# Altium integrated library Capacitor - Aluminium TH.IntLib: 4591 symbols (part 47 of 68)
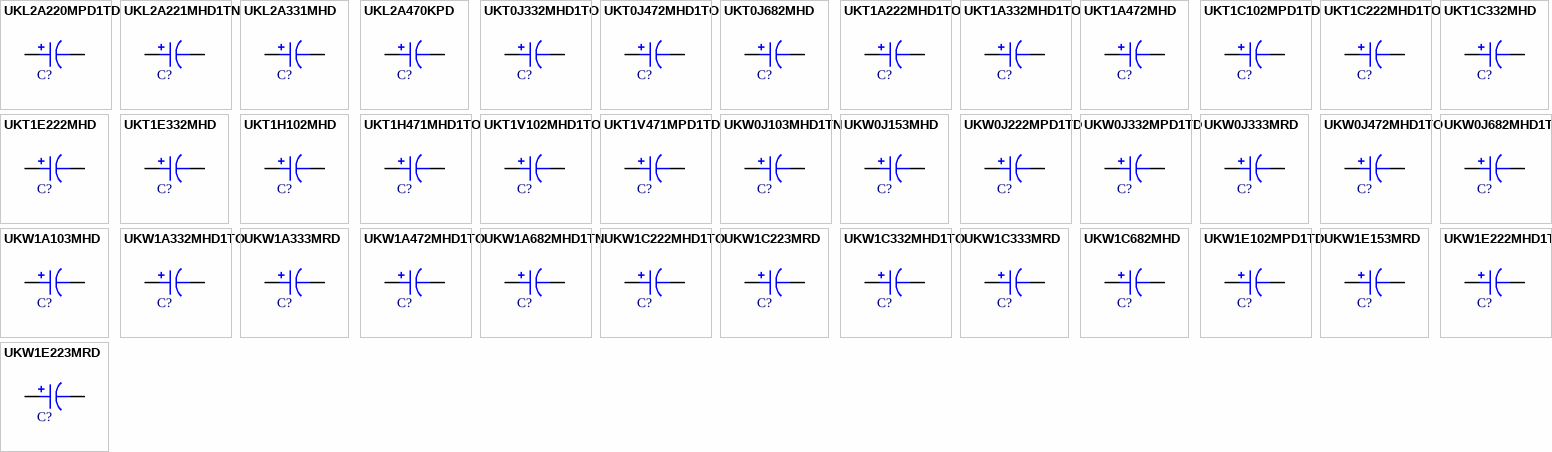
[diagram p160: symbols UKL2A220MPD1TD to UKW1E223MRD]

## UKL2A470KPD
designator C?, comment 47uF  (value not drawn)
CAP ALUM 47UF 10% 100V RADIAL; Part Number: UKL2A470KPD; Manufacturer: Nichicon; TemperatureRange: -40C ~ 85C; Type: Polar; Ripple Current: 220mA @ 120Hz; Value: 47uF; PartId: 25618; Supplier 1: Digi-Key; Supplier Part Number 1: 493-14500-ND; ComponentLink1Description: Datasheet; ComponentLink1URL: http://nichicon-us.com/english/products/pdfs/e-ukl.pdf; ComponentLink2Description: Digi-Key Listing; ComponentLink2URL: https://www.digikey.com/product-detail/en/nichicon/UKL2A470KPD/493-14500-ND/2598578; Tolerance: 10%; Voltage: 100V; Price: 0.7; Device Package: Radial, Can, 10mm
footprint CAP AL TH D10 L5 H22
pins: 1, 2

## UKT0J332MHD1TO
designator C?, comment 3300uF  (value not drawn)
CAP ALUM 3300UF 20% 6.3V RADIAL; Part Number: UKT0J332MHD1TO; Manufacturer: Nichicon; TemperatureRange: -55C ~ 105C; Ripple Current: 910mA; Value: 3300uF; PartId: 23196; Supplier 1: Digi-Key; Supplier Part Number 1: 493-10614-3-ND; ComponentLink1Description: Datasheet; ComponentLink1URL: http://nichicon-us.com/english/products/pdfs/e-ukt.pdf; ComponentLink2Description: Digi-Key Listing; ComponentLink2URL: https://www.digikey.com/product-detail/en/nichicon/UKT0J332MHD1TO/493-10614-3-ND/4317236; Tolerance: 20%; Voltage: 6.3V; Price: 0.4455; Device Package: Radial, Can, 12.5mm
footprint CAP AL TH D12.5 L5 H22
pins: 1, 2

## UKT0J472MHD1TO
designator C?, comment 4700uF  (value not drawn)
CAP ALUM 4700UF 20% 6.3V RADIAL; Part Number: UKT0J472MHD1TO; Manufacturer: Nichicon; TemperatureRange: -55C ~ 105C; Ripple Current: 1.12mA; Value: 4700uF; PartId: 24128; Supplier 1: Digi-Key; Supplier Part Number 1: 493-10617-1-ND; ComponentLink1Description: Datasheet; ComponentLink1URL: http://nichicon-us.com/english/products/pdfs/e-ukt.pdf; ComponentLink2Description: Digi-Key Listing; ComponentLink2URL: https://www.digikey.com/product-detail/en/nichicon/UKT0J472MHD1TO/493-10617-1-ND/4317637; Tolerance: 20%; Voltage: 6.3V; Price: 1.44; Device Package: Radial, Can, 12.5mm
footprint CAP AL TH D12.5 L5 H27
pins: 1, 2

## UKT0J682MHD
designator C?, comment 6800uF  (value not drawn)
CAP ALUM 6800UF 20% 6.3V RADIAL; Part Number: UKT0J682MHD; Manufacturer: Nichicon; TemperatureRange: -55C ~ 105C; Ripple Current: 1.36A; Value: 6800uF; PartId: 24400; Supplier 1: Digi-Key; Supplier Part Number 1: 493-10618-ND; ComponentLink1Description: Datasheet; ComponentLink1URL: http://nichicon-us.com/english/products/pdfs/e-ukt.pdf; ComponentLink2Description: Digi-Key Listing; ComponentLink2URL: https://www.digikey.com/product-detail/en/nichicon/UKT0J682MHD/493-10618-ND/1964316; Tolerance: 20%; Voltage: 6.3V; Price: 1.85; Device Package: Radial, Can, 12.5mm
footprint CAP AL TH D12.5 L5 H35.5
pins: 1, 2

## UKT1A222MHD1TO
designator C?, comment 2200uF  (value not drawn)
CAP ALUM 2200UF 20% 10V RADIAL; Part Number: UKT1A222MHD1TO; Manufacturer: Nichicon; TemperatureRange: -55C ~ 105C; Ripple Current: 810mA; Value: 2200uF; PartId: 23460; Supplier 1: Digi-Key; Supplier Part Number 1: 493-10623-1-ND; ComponentLink1Description: Datasheet; ComponentLink1URL: http://nichicon-us.com/english/products/pdfs/e-ukt.pdf; ComponentLink2Description: Digi-Key Listing; ComponentLink2URL: https://www.digikey.com/product-detail/en/nichicon/UKT1A222MHD1TO/493-10623-1-ND/4317642; Tolerance: 20%; Voltage: 10V; Price: 1.05; Device Package: Radial, Can, 12.5mm
footprint CAP AL TH D12.5 L5 H22
pins: 1, 2

## UKT1A332MHD1TO
designator C?, comment 3300uF  (value not drawn)
CAP ALUM 3300UF 20% 10V RADIAL; Part Number: UKT1A332MHD1TO; Manufacturer: Nichicon; TemperatureRange: -55C ~ 105C; Ripple Current: 1.05A; Value: 3300uF; PartId: 24129; Supplier 1: Digi-Key; Supplier Part Number 1: 493-10626-1-ND; ComponentLink1Description: Datasheet; ComponentLink1URL: http://nichicon-us.com/english/products/pdfs/e-ukt.pdf; ComponentLink2Description: Digi-Key Listing; ComponentLink2URL: https://www.digikey.com/product-detail/en/nichicon/UKT1A332MHD1TO/493-10626-1-ND/4317645; Tolerance: 20%; Voltage: 10V; Price: 1.44; Device Package: Radial, Can, 12.5mm
footprint CAP AL TH D12.5 L5 H27
pins: 1, 2

## UKT1A472MHD
designator C?, comment 4700uF  (value not drawn)
CAP ALUM 4700UF 20% 10V RADIAL; Part Number: UKT1A472MHD; Manufacturer: Nichicon; TemperatureRange: -55C ~ 105C; Ripple Current: 1.3A; Value: 4700uF; PartId: 24401; Supplier 1: Digi-Key; Supplier Part Number 1: 493-10629-ND; ComponentLink1Description: Datasheet; ComponentLink1URL: http://nichicon-us.com/english/products/pdfs/e-ukt.pdf; ComponentLink2Description: Digi-Key Listing; ComponentLink2URL: https://www.digikey.com/product-detail/en/nichicon/UKT1A472MHD/493-10629-ND/1964328; Tolerance: 20%; Voltage: 10V; Price: 1.85; Device Package: Radial, Can, 12.5mm
footprint CAP AL TH D12.5 L5 H35.5
pins: 1, 2

## UKT1C102MPD1TD
designator C?, comment 1000uF  (value not drawn)
CAP ALUM 1000UF 20% 16V RADIAL; Part Number: UKT1C102MPD1TD; Manufacturer: Nichicon; TemperatureRange: -55C ~ 105C; Ripple Current: 560mA; Value: 1000uF; PartId: 25109; Supplier 1: Digi-Key; Supplier Part Number 1: 493-10633-3-ND; ComponentLink1Description: Datasheet; ComponentLink1URL: http://nichicon-us.com/english/products/pdfs/e-ukt.pdf; ComponentLink2Description: Digi-Key Listing; ComponentLink2URL: https://www.digikey.com/product-detail/en/nichicon/UKT1C102MPD1TD/493-10633-3-ND/4317252; Tolerance: 20%; Voltage: 16V; Price: 0.3024; Device Package: Radial, Can, 10mm
footprint CAP AL TH D10 L5 H17.5
pins: 1, 2

## UKT1C222MHD1TO
designator C?, comment 2200uF  (value not drawn)
CAP ALUM 2200UF 20% 16V RADIAL; Part Number: UKT1C222MHD1TO; Manufacturer: Nichicon; TemperatureRange: -55C ~ 105C; Ripple Current: 920mA; Value: 2200uF; PartId: 23457; Supplier 1: Digi-Key; Supplier Part Number 1: 493-10636-1-ND; ComponentLink1Description: Datasheet; ComponentLink1URL: http://nichicon-us.com/english/products/pdfs/e-ukt.pdf; ComponentLink2Description: Digi-Key Listing; ComponentLink2URL: https://www.digikey.com/product-detail/en/nichicon/UKT1C222MHD1TO/493-10636-1-ND/4317653; Tolerance: 20%; Voltage: 16V; Price: 1.05; Device Package: Radial, Can, 12.5mm
footprint CAP AL TH D12.5 L5 H22
pins: 1, 2

## UKT1C332MHD
designator C?, comment 3300uF  (value not drawn)
CAP ALUM 3300UF 20% 16V RADIAL; Part Number: UKT1C332MHD; Manufacturer: Nichicon; TemperatureRange: -55C ~ 105C; Ripple Current: 1.27A; Value: 3300uF; PartId: 24382; Supplier 1: Digi-Key; Supplier Part Number 1: 493-10639-ND; ComponentLink1Description: Datasheet; ComponentLink1URL: http://nichicon-us.com/english/products/pdfs/e-ukt.pdf; ComponentLink2Description: Digi-Key Listing; ComponentLink2URL: https://www.digikey.com/product-detail/en/nichicon/UKT1C332MHD/493-10639-ND/1964340; Tolerance: 20%; Voltage: 16V; Price: 1.69; Device Package: Radial, Can, 12.5mm
footprint CAP AL TH D12.5 L5 H35.5
pins: 1, 2

## UKT1E222MHD
designator C?, comment 2200uF  (value not drawn)
CAP ALUM 2200UF 20% 25V RADIAL; Part Number: UKT1E222MHD; Manufacturer: Nichicon; TemperatureRange: -55C ~ 105C; Ripple Current: 1.2A; Value: 2200uF; PartId: 24379; Supplier 1: Digi-Key; Supplier Part Number 1: 493-10648-ND; ComponentLink1Description: Datasheet; ComponentLink1URL: http://nichicon-us.com/english/products/pdfs/e-ukt.pdf; ComponentLink2Description: Digi-Key Listing; ComponentLink2URL: https://www.digikey.com/product-detail/en/nichicon/UKT1E222MHD/493-10648-ND/1964352; Tolerance: 20%; Voltage: 25V; Price: 1.69; Device Package: Radial, Can, 12.5mm
footprint CAP AL TH D12.5 L5 H35.5
pins: 1, 2

## UKT1E332MHD
designator C?, comment 3300uF  (value not drawn)
CAP ALUM 3300UF 20% 25V RADIAL; Part Number: UKT1E332MHD; Manufacturer: Nichicon; TemperatureRange: -55C ~ 105C; Ripple Current: 1.4A; Value: 3300uF; PartId: 24402; Supplier 1: Digi-Key; Supplier Part Number 1: 493-10651-ND; ComponentLink1Description: Datasheet; ComponentLink1URL: http://nichicon-us.com/english/products/pdfs/e-ukt.pdf; ComponentLink2Description: Digi-Key Listing; ComponentLink2URL: https://www.digikey.com/product-detail/en/nichicon/UKT1E332MHD/493-10651-ND/1964353; Tolerance: 20%; Voltage: 25V; Price: 1.85; Device Package: Radial, Can, 12.5mm
footprint CAP AL TH D12.5 L5 H35.5
pins: 1, 2

## UKT1H102MHD
designator C?, comment 1000uF  (value not drawn)
CAP ALUM 1000UF 20% 50V RADIAL; Part Number: UKT1H102MHD; Manufacturer: Nichicon; TemperatureRange: -55C ~ 105C; Ripple Current: 1.04A; Value: 1000uF; PartId: 24380; Supplier 1: Digi-Key; Supplier Part Number 1: 493-10659-ND; ComponentLink1Description: Datasheet; ComponentLink1URL: http://nichicon-us.com/english/products/pdfs/e-ukt.pdf; ComponentLink2Description: Digi-Key Listing; ComponentLink2URL: https://www.digikey.com/product-detail/en/nichicon/UKT1H102MHD/493-10659-ND/1964381; Tolerance: 20%; Voltage: 50V; Price: 1.69; Device Package: Radial, Can, 12.5mm
footprint CAP AL TH D12.5 L5 H35.5
pins: 1, 2

## UKT1H471MHD1TO
designator C?, comment 470uF  (value not drawn)
CAP ALUM 470UF 20% 50V RADIAL; Part Number: UKT1H471MHD1TO; Manufacturer: Nichicon; TemperatureRange: -55C ~ 105C; Ripple Current: 530mA; Value: 470uF; PartId: 23477; Supplier 1: Digi-Key; Supplier Part Number 1: 493-10667-1-ND; ComponentLink1Description: Datasheet; ComponentLink1URL: http://nichicon-us.com/english/products/pdfs/e-ukt.pdf; ComponentLink2Description: Digi-Key Listing; ComponentLink2URL: https://www.digikey.com/product-detail/en/nichicon/UKT1H471MHD1TO/493-10667-1-ND/4317679; Tolerance: 20%; Voltage: 50V; Price: 1.13; Device Package: Radial, Can, 12.5mm
footprint CAP AL TH D12.5 L5 H22
pins: 1, 2

## UKT1V102MHD1TO
designator C?, comment 1000uF  (value not drawn)
CAP ALUM 1000UF 20% 35V RADIAL; Part Number: UKT1V102MHD1TO; Manufacturer: Nichicon; TemperatureRange: -55C ~ 105C; Ripple Current: 860mA; Value: 1000uF; PartId: 24130; Supplier 1: Digi-Key; Supplier Part Number 1: 493-10674-1-ND; ComponentLink1Description: Datasheet; ComponentLink1URL: http://nichicon-us.com/english/products/pdfs/e-ukt.pdf; ComponentLink2Description: Digi-Key Listing; ComponentLink2URL: https://www.digikey.com/product-detail/en/nichicon/UKT1V102MHD1TO/493-10674-1-ND/4317686; Tolerance: 20%; Voltage: 35V; Price: 1.44; Device Package: Radial, Can, 12.5mm
footprint CAP AL TH D12.5 L5 H27
pins: 1, 2

## UKT1V471MPD1TD
designator C?, comment 470uF  (value not drawn)
CAP ALUM 470UF 20% 35V RADIAL; Part Number: UKT1V471MPD1TD; Manufacturer: Nichicon; TemperatureRange: -55C ~ 105C; Ripple Current: 460mA; Value: 470uF; PartId: 25131; Supplier 1: Digi-Key; Supplier Part Number 1: 493-10681-3-ND; ComponentLink1Description: Datasheet; ComponentLink1URL: http://nichicon-us.com/english/products/pdfs/e-ukt.pdf; ComponentLink2Description: Digi-Key Listing; ComponentLink2URL: https://www.digikey.com/product-detail/en/nichicon/UKT1V471MPD1TD/493-10681-3-ND/4317294; Tolerance: 20%; Voltage: 35V; Price: 0.3502; Device Package: Radial, Can, 10mm
footprint CAP AL TH D10 L5 H17.5
pins: 1, 2

## UKW0J103MHD1TN
designator C?, comment 10000uF  (value not drawn)
CAP ALUM 10000UF 20% 6.3V RADIAL; Part Number: UKW0J103MHD1TN; Manufacturer: Nichicon; TemperatureRange: -40C ~ 85C; Type: Polar; Ripple Current: 2A; Value: 10000uF; PartId: 26835; Supplier 1: Digi-Key; Supplier Part Number 1: 493-10719-3-ND; ComponentLink1Description: Datasheet; ComponentLink1URL: http://nichicon-us.com/english/products/pdfs/e-ukw.pdf; ComponentLink2Description: Digi-Key Listing; ComponentLink2URL: https://www.digikey.com/product-detail/en/nichicon/UKW0J103MHD1TN/493-10719-3-ND/4317297; Tolerance: 20%; Voltage: 6.3V; Price: 0.9874; Device Package: Radial, Can, 16mm
footprint CAP AL TH D16 L7.5 H27
pins: 1, 2

## UKW0J153MHD
designator C?, comment 15000uF  (value not drawn)
CAP ALUM 15000UF 20% 6.3V RADIAL; Part Number: UKW0J153MHD; Manufacturer: Nichicon; TemperatureRange: -40C ~ 85C; Type: Polar; Ripple Current: 2.55A; Value: 15000uF; PartId: 27399; Supplier 1: Digi-Key; Supplier Part Number 1: 493-10716-ND; ComponentLink1Description: Datasheet; ComponentLink1URL: http://nichicon-us.com/english/products/pdfs/e-ukw.pdf; ComponentLink2Description: Digi-Key Listing; ComponentLink2URL: https://www.digikey.com/product-detail/en/nichicon/UKW0J153MHD/493-10716-ND/1964198; Tolerance: 20%; Voltage: 6.3V; Price: 2.08; Device Package: Radial, Can, 16mm
footprint CAP AL TH D16 L7.5 H37
pins: 1, 2

## UKW0J222MPD1TD
designator C?, comment 2200uF  (value not drawn)
CAP ALUM 2200UF 20% 6.3V RADIAL; Part Number: UKW0J222MPD1TD; Manufacturer: Nichicon; TemperatureRange: -40C ~ 85C; Type: Polar; Ripple Current: 980mA; Value: 2200uF; PartId: 25812; Supplier 1: Digi-Key; Supplier Part Number 1: 493-10739-3-ND; ComponentLink1Description: Datasheet; ComponentLink1URL: http://nichicon-us.com/english/products/pdfs/e-ukw.pdf; ComponentLink2Description: Digi-Key Listing; ComponentLink2URL: https://www.digikey.com/product-detail/en/nichicon/UKW0J222MPD1TD/493-10739-3-ND/4317317; Tolerance: 20%; Voltage: 6.3V; Price: 0.3292; Device Package: Radial, Can, 10mm
footprint CAP AL TH D10 L5 H22
pins: 1, 2

## UKW0J332MPD1TD
designator C?, comment 3300uF  (value not drawn)
CAP ALUM 3300UF 20% 6.3V RADIAL; Part Number: UKW0J332MPD1TD; Manufacturer: Nichicon; TemperatureRange: -40C ~ 85C; Type: Polar; Ripple Current: 1.17A; Value: 3300uF; PartId: 25835; Supplier 1: Digi-Key; Supplier Part Number 1: 493-10683-3-ND; ComponentLink1Description: Datasheet; ComponentLink1URL: http://nichicon-us.com/english/products/pdfs/e-ukw.pdf; ComponentLink2Description: Digi-Key Listing; ComponentLink2URL: https://www.digikey.com/product-detail/en/nichicon/UKW0J332MPD1TD/493-10683-3-ND/4318015; Tolerance: 20%; Voltage: 6.3V; Price: 0.4064; Device Package: Radial, Can, 10mm
footprint CAP AL TH D10 L5 H22
pins: 1, 2

## UKW0J333MRD
designator C?, comment 33000uF  (value not drawn)
CAP ALUM 33000UF 20% 6.3V RADIAL; Part Number: UKW0J333MRD; Manufacturer: Nichicon; TemperatureRange: -40C ~ 85C; Type: Polar; Ripple Current: 3.9A; Value: 33000uF; PartId: 27649; Supplier 1: Digi-Key; Supplier Part Number 1: 493-10691-ND; ComponentLink1Description: Datasheet; ComponentLink1URL: http://nichicon-us.com/english/products/pdfs/e-ukw.pdf; ComponentLink2Description: Digi-Key Listing; ComponentLink2URL: https://www.digikey.com/product-detail/en/nichicon/UKW0J333MRD/493-10691-ND/1964200; Tolerance: 20%; Voltage: 6.3V; Price: 4.27; Device Package: Radial, Can, 22mm
footprint CAP AL TH D22 L10 H53
pins: 1, 2

## UKW0J472MHD1TO
designator C?, comment 4700uF  (value not drawn)
CAP ALUM 4700UF 20% 6.3V RADIAL; Part Number: UKW0J472MHD1TO; Manufacturer: Nichicon; TemperatureRange: -40C ~ 85C; Type: Polar; Ripple Current: 1.35A; Value: 4700uF; PartId: 23419; Supplier 1: Digi-Key; Supplier Part Number 1: 493-10733-1-ND; ComponentLink1Description: Datasheet; ComponentLink1URL: http://nichicon-us.com/english/products/pdfs/e-ukw.pdf; ComponentLink2Description: Digi-Key Listing; ComponentLink2URL: https://www.digikey.com/product-detail/en/nichicon/UKW0J472MHD1TO/493-10733-1-ND/4317709; Tolerance: 20%; Voltage: 6.3V; Price: 1; Device Package: Radial, Can, 12.5mm
footprint CAP AL TH D12.5 L5 H22
pins: 1, 2

## UKW0J682MHD1TO
designator C?, comment 6800uF  (value not drawn)
CAP ALUM 6800UF 20% 6.3V RADIAL; Part Number: UKW0J682MHD1TO; Manufacturer: Nichicon; TemperatureRange: -40C ~ 85C; Type: Polar; Ripple Current: 1.6A; Value: 6800uF; PartId: 23855; Supplier 1: Digi-Key; Supplier Part Number 1: 493-10726-3-ND; ComponentLink1Description: Datasheet; ComponentLink1URL: http://nichicon-us.com/english/products/pdfs/e-ukw.pdf; ComponentLink2Description: Digi-Key Listing; ComponentLink2URL: https://www.digikey.com/product-detail/en/nichicon/UKW0J682MHD1TO/493-10726-3-ND/4317304; Tolerance: 20%; Voltage: 6.3V; Price: 0.6485; Device Package: Radial, Can, 12.5mm
footprint CAP AL TH D12.5 L5 H27
pins: 1, 2

## UKW1A103MHD
designator C?, comment 10000uF  (value not drawn)
CAP ALUM 10000UF 20% 10V RADIAL; Part Number: UKW1A103MHD; Manufacturer: Nichicon; TemperatureRange: -40C ~ 85C; Type: Polar; Ripple Current: 2.5A; Value: 10000uF; PartId: 27397; Supplier 1: Digi-Key; Supplier Part Number 1: 493-10717-ND; ComponentLink1Description: Datasheet; ComponentLink1URL: http://nichicon-us.com/english/products/pdfs/e-ukw.pdf; ComponentLink2Description: Digi-Key Listing; ComponentLink2URL: https://www.digikey.com/product-detail/en/nichicon/UKW1A103MHD/493-10717-ND/1964210; Tolerance: 20%; Voltage: 10V; Price: 2.08; Device Package: Radial, Can, 16mm
footprint CAP AL TH D16 L7.5 H37
pins: 1, 2

## UKW1A332MHD1TO
designator C?, comment 3300uF  (value not drawn)
CAP ALUM 3300UF 20% 10V RADIAL; Part Number: UKW1A332MHD1TO; Manufacturer: Nichicon; TemperatureRange: -40C ~ 85C; Type: Polar; Ripple Current: 1.42A; Value: 3300uF; PartId: 23422; Supplier 1: Digi-Key; Supplier Part Number 1: 493-10734-1-ND; ComponentLink1Description: Datasheet; ComponentLink1URL: http://nichicon-us.com/english/products/pdfs/e-ukw.pdf; ComponentLink2Description: Digi-Key Listing; ComponentLink2URL: https://www.digikey.com/product-detail/en/nichicon/UKW1A332MHD1TO/493-10734-1-ND/4317710; Tolerance: 20%; Voltage: 10V; Price: 1; Device Package: Radial, Can, 12.5mm
footprint CAP AL TH D12.5 L5 H22
pins: 1, 2

## UKW1A333MRD
designator C?, comment 33000uF  (value not drawn)
CAP ALUM 33000UF 20% 10V RADIAL; Part Number: UKW1A333MRD; Manufacturer: Nichicon; TemperatureRange: -40C ~ 85C; Type: Polar; Ripple Current: 4.5A; Value: 33000uF; PartId: 27652; Supplier 1: Digi-Key; Supplier Part Number 1: 493-10692-ND; ComponentLink1Description: Datasheet; ComponentLink1URL: http://nichicon-us.com/english/products/pdfs/e-ukw.pdf; ComponentLink2Description: Digi-Key Listing; ComponentLink2URL: https://www.digikey.com/product-detail/en/nichicon/UKW1A333MRD/493-10692-ND/1964213; Tolerance: 20%; Voltage: 10V; Price: 4.27; Device Package: Radial, Can, 22mm
footprint CAP AL TH D22 L10 H53
pins: 1, 2

## UKW1A472MHD1TO
designator C?, comment 4700uF  (value not drawn)
CAP ALUM 4700UF 20% 10V RADIAL; Part Number: UKW1A472MHD1TO; Manufacturer: Nichicon; TemperatureRange: -40C ~ 85C; Type: Polar; Ripple Current: 1.8A; Value: 4700uF; PartId: 23856; Supplier 1: Digi-Key; Supplier Part Number 1: 493-10727-3-ND; ComponentLink1Description: Datasheet; ComponentLink1URL: http://nichicon-us.com/english/products/pdfs/e-ukw.pdf; ComponentLink2Description: Digi-Key Listing; ComponentLink2URL: https://www.digikey.com/product-detail/en/nichicon/UKW1A472MHD1TO/493-10727-3-ND/4317305; Tolerance: 20%; Voltage: 10V; Price: 0.6485; Device Package: Radial, Can, 12.5mm
footprint CAP AL TH D12.5 L5 H27
pins: 1, 2

## UKW1A682MHD1TN
designator C?, comment 6800uF  (value not drawn)
CAP ALUM 6800UF 20% 10V RADIAL; Part Number: UKW1A682MHD1TN; Manufacturer: Nichicon; TemperatureRange: -40C ~ 85C; Type: Polar; Ripple Current: 2.15A; Value: 6800uF; PartId: 26836; Supplier 1: Digi-Key; Supplier Part Number 1: 493-10720-3-ND; ComponentLink1Description: Datasheet; ComponentLink1URL: http://nichicon-us.com/english/products/pdfs/e-ukw.pdf; ComponentLink2Description: Digi-Key Listing; ComponentLink2URL: https://www.digikey.com/product-detail/en/nichicon/UKW1A682MHD1TN/493-10720-3-ND/4317298; Tolerance: 20%; Voltage: 10V; Price: 0.9874; Device Package: Radial, Can, 16mm
footprint CAP AL TH D16 L7.5 H27
pins: 1, 2

## UKW1C222MHD1TO
designator C?, comment 2200uF  (value not drawn)
CAP ALUM 2200UF 20% 16V RADIAL; Part Number: UKW1C222MHD1TO; Manufacturer: Nichicon; TemperatureRange: -40C ~ 85C; Type: Polar; Ripple Current: 1.25A; Value: 2200uF; PartId: 23423; Supplier 1: Digi-Key; Supplier Part Number 1: 493-10735-1-ND; ComponentLink1Description: Datasheet; ComponentLink1URL: http://nichicon-us.com/english/products/pdfs/e-ukw.pdf; ComponentLink2Description: Digi-Key Listing; ComponentLink2URL: https://www.digikey.com/product-detail/en/nichicon/UKW1C222MHD1TO/493-10735-1-ND/4317711; Tolerance: 20%; Voltage: 16V; Price: 1; Device Package: Radial, Can, 12.5mm
footprint CAP AL TH D12.5 L5 H22
pins: 1, 2

## UKW1C223MRD
designator C?, comment 22000uF  (value not drawn)
CAP ALUM 22000UF 20% 16V RADIAL; Part Number: UKW1C223MRD; Manufacturer: Nichicon; TemperatureRange: -40C ~ 85C; Type: Polar; Ripple Current: 4.2A; Value: 22000uF; PartId: 27650; Supplier 1: Digi-Key; Supplier Part Number 1: 493-10693-ND; ComponentLink1Description: Datasheet; ComponentLink1URL: http://nichicon-us.com/english/products/pdfs/e-ukw.pdf; ComponentLink2Description: Digi-Key Listing; ComponentLink2URL: https://www.digikey.com/product-detail/en/nichicon/UKW1C223MRD/493-10693-ND/1964225; Tolerance: 20%; Voltage: 16V; Price: 4.27; Device Package: Radial, Can, 22mm
footprint CAP AL TH D22 L10 H53
pins: 1, 2

## UKW1C332MHD1TO
designator C?, comment 3300uF  (value not drawn)
CAP ALUM 3300UF 20% 16V RADIAL; Part Number: UKW1C332MHD1TO; Manufacturer: Nichicon; TemperatureRange: -40C ~ 85C; Type: Polar; Ripple Current: 1.7A; Value: 3300uF; PartId: 24163; Supplier 1: Digi-Key; Supplier Part Number 1: 493-10728-1-ND; ComponentLink1Description: Datasheet; ComponentLink1URL: http://nichicon-us.com/english/products/pdfs/e-ukw.pdf; ComponentLink2Description: Digi-Key Listing; ComponentLink2URL: https://www.digikey.com/product-detail/en/nichicon/UKW1C332MHD1TO/493-10728-1-ND/4317704; Tolerance: 20%; Voltage: 16V; Price: 1.62; Device Package: Radial, Can, 12.5mm
footprint CAP AL TH D12.5 L5 H27
pins: 1, 2

## UKW1C333MRD
designator C?, comment 33000uF  (value not drawn)
CAP ALUM 33000UF 20% 16V RADIAL; Part Number: UKW1C333MRD; Manufacturer: Nichicon; TemperatureRange: -40C ~ 85C; Type: Polar; Ripple Current: 4.8A; Value: 33000uF; PartId: 27538; Supplier 1: Digi-Key; Supplier Part Number 1: 493-10686-ND; ComponentLink1Description: Datasheet; ComponentLink1URL: http://nichicon-us.com/english/products/pdfs/e-ukw.pdf; ComponentLink2Description: Digi-Key Listing; ComponentLink2URL: https://www.digikey.com/product-detail/en/nichicon/UKW1C333MRD/493-10686-ND/1964226; Tolerance: 20%; Voltage: 16V; Price: 5.93; Device Package: Radial, Can, 25mm
footprint CAP AL TH D25 L12.5 H52
pins: 1, 2

## UKW1C682MHD
designator C?, comment 6800uF  (value not drawn)
CAP ALUM 6800UF 20% 16V RADIAL; Part Number: UKW1C682MHD; Manufacturer: Nichicon; TemperatureRange: -40C ~ 85C; Type: Polar; Ripple Current: 2.5A; Value: 6800uF; PartId: 27402; Supplier 1: Digi-Key; Supplier Part Number 1: 493-10713-ND; ComponentLink1Description: Datasheet; ComponentLink1URL: http://nichicon-us.com/english/products/pdfs/e-ukw.pdf; ComponentLink2Description: Digi-Key Listing; ComponentLink2URL: https://www.digikey.com/product-detail/en/nichicon/UKW1C682MHD/493-10713-ND/1964222; Tolerance: 20%; Voltage: 16V; Price: 2.16; Device Package: Radial, Can, 16mm
footprint CAP AL TH D16 L7.5 H37
pins: 1, 2

## UKW1E102MPD1TD
designator C?, comment 1000uF  (value not drawn)
CAP ALUM 1000UF 20% 25V RADIAL; Part Number: UKW1E102MPD1TD; Manufacturer: Nichicon; TemperatureRange: -40C ~ 85C; Type: Polar; Ripple Current: 950mA; Value: 1000uF; PartId: 25810; Supplier 1: Digi-Key; Supplier Part Number 1: 493-10741-3-ND; ComponentLink1Description: Datasheet; ComponentLink1URL: http://nichicon-us.com/english/products/pdfs/e-ukw.pdf; ComponentLink2Description: Digi-Key Listing; ComponentLink2URL: https://www.digikey.com/product-detail/en/nichicon/UKW1E102MPD1TD/493-10741-3-ND/4317319; Tolerance: 20%; Voltage: 25V; Price: 0.3292; Device Package: Radial, Can, 10mm
footprint CAP AL TH D10 L5 H22
pins: 1, 2

## UKW1E153MRD
designator C?, comment 15000uF  (value not drawn)
CAP ALUM 15000UF 20% 25V RADIAL; Part Number: UKW1E153MRD; Manufacturer: Nichicon; TemperatureRange: -40C ~ 85C; Type: Polar; Ripple Current: 3.8A; Value: 15000uF; PartId: 27651; Supplier 1: Digi-Key; Supplier Part Number 1: 493-10694-ND; ComponentLink1Description: Datasheet; ComponentLink1URL: http://nichicon-us.com/english/products/pdfs/e-ukw.pdf; ComponentLink2Description: Digi-Key Listing; ComponentLink2URL: https://www.digikey.com/product-detail/en/nichicon/UKW1E153MRD/493-10694-ND/1964238; Tolerance: 20%; Voltage: 25V; Price: 4.27; Device Package: Radial, Can, 22mm
footprint CAP AL TH D22 L10 H53
pins: 1, 2

## UKW1E222MHD1TO
designator C?, comment 2200uF  (value not drawn)
CAP ALUM 2200UF 20% 25V RADIAL; Part Number: UKW1E222MHD1TO; Manufacturer: Nichicon; TemperatureRange: -40C ~ 85C; Type: Polar; Ripple Current: 1.55A; Value: 2200uF; PartId: 23852; Supplier 1: Digi-Key; Supplier Part Number 1: 493-10729-3-ND; ComponentLink1Description: Datasheet; ComponentLink1URL: http://nichicon-us.com/english/products/pdfs/e-ukw.pdf; ComponentLink2Description: Digi-Key Listing; ComponentLink2URL: https://www.digikey.com/product-detail/en/nichicon/UKW1E222MHD1TO/493-10729-3-ND/4317307; Tolerance: 20%; Voltage: 25V; Price: 0.6485; Device Package: Radial, Can, 12.5mm
footprint CAP AL TH D12.5 L5 H27
pins: 1, 2

## UKW1E223MRD
designator C?, comment 22000uF  (value not drawn)
CAP ALUM 22000UF 20% 25V RADIAL; Part Number: UKW1E223MRD; Manufacturer: Nichicon; TemperatureRange: -40C ~ 85C; Type: Polar; Ripple Current: 4.5A; Value: 22000uF; PartId: 27539; Supplier 1: Digi-Key; Supplier Part Number 1: 493-10687-ND; ComponentLink1Description: Datasheet; ComponentLink1URL: http://nichicon-us.com/english/products/pdfs/e-ukw.pdf; ComponentLink2Description: Digi-Key Listing; ComponentLink2URL: https://www.digikey.com/product-detail/en/nichicon/UKW1E223MRD/493-10687-ND/1964239; Tolerance: 20%; Voltage: 25V; Price: 5.93; Device Package: Radial, Can, 25mm
footprint CAP AL TH D25 L12.5 H52
pins: 1, 2

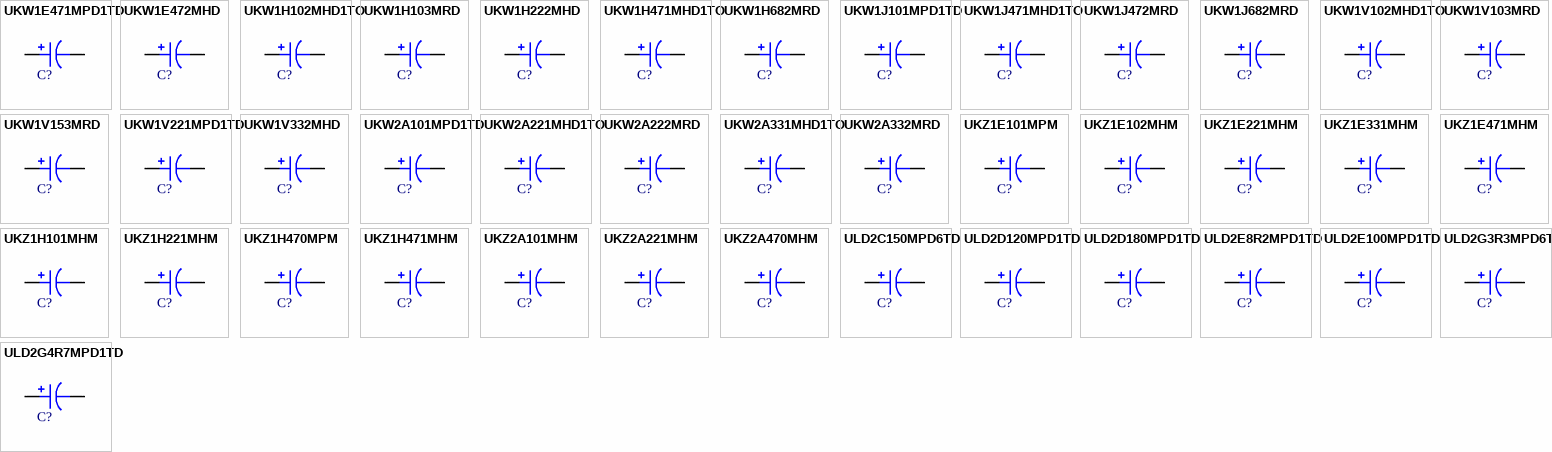
[diagram p78: symbols UKW1E471MPD1TD to ULD2G4R7MPD1TD]

## UKW1E471MPD1TD
designator C?, comment 470uF  (value not drawn)
CAP ALUM 470UF 20% 25V RADIAL; Part Number: UKW1E471MPD1TD; Manufacturer: Nichicon; TemperatureRange: -40C ~ 85C; Type: Polar; Ripple Current: 530mA; Value: 470uF; PartId: 24666; Supplier 1: Digi-Key; Supplier Part Number 1: 493-10748-3-ND; ComponentLink1Description: Datasheet; ComponentLink1URL: http://nichicon-us.com/english/products/pdfs/e-ukw.pdf; ComponentLink2Description: Digi-Key Listing; ComponentLink2URL: https://www.digikey.com/product-detail/en/nichicon/UKW1E471MPD1TD/493-10748-3-ND/4317326; Tolerance: 20%; Voltage: 25V; Price: 0.2779; Device Package: Radial, Can, 10mm
footprint CAP AL TH D10 L5 H14.5
pins: 1, 2

## UKW1E472MHD
designator C?, comment 4700uF  (value not drawn)
CAP ALUM 4700UF 20% 25V RADIAL; Part Number: UKW1E472MHD; Manufacturer: Nichicon; TemperatureRange: -40C ~ 85C; Type: Polar; Ripple Current: 2.36A; Value: 4700uF; PartId: 27202; Supplier 1: Digi-Key; Supplier Part Number 1: 493-10715-ND; ComponentLink1Description: Datasheet; ComponentLink1URL: http://nichicon-us.com/english/products/pdfs/e-ukw.pdf; ComponentLink2Description: Digi-Key Listing; ComponentLink2URL: https://www.digikey.com/product-detail/en/nichicon/UKW1E472MHD/493-10715-ND/1964235; Tolerance: 20%; Voltage: 25V; Price: 2.09; Device Package: Radial, Can, 16mm
footprint CAP AL TH D16 L7.5 H33.5
pins: 1, 2

## UKW1H102MHD1TO
designator C?, comment 1000uF  (value not drawn)
CAP ALUM 1000UF 20% 50V RADIAL; Part Number: UKW1H102MHD1TO; Manufacturer: Nichicon; TemperatureRange: -40C ~ 85C; Type: Polar; Ripple Current: 1.3A; Value: 1000uF; PartId: 23853; Supplier 1: Digi-Key; Supplier Part Number 1: 493-10730-3-ND; ComponentLink1Description: Datasheet; ComponentLink1URL: http://nichicon-us.com/english/products/pdfs/e-ukw.pdf; ComponentLink2Description: Digi-Key Listing; ComponentLink2URL: https://www.digikey.com/product-detail/en/nichicon/UKW1H102MHD1TO/493-10730-3-ND/4317308; Tolerance: 20%; Voltage: 50V; Price: 0.6485; Device Package: Radial, Can, 12.5mm
footprint CAP AL TH D12.5 L5 H27
pins: 1, 2

## UKW1H103MRD
designator C?, comment 10000uF  (value not drawn)
CAP ALUM 10000UF 20% 50V RADIAL; Part Number: UKW1H103MRD; Manufacturer: Nichicon; TemperatureRange: -40C ~ 85C; Type: Polar; Ripple Current: 4A; Value: 10000uF; PartId: 27512; Supplier 1: Digi-Key; Supplier Part Number 1: 493-10688-ND; ComponentLink1Description: Datasheet; ComponentLink1URL: http://nichicon-us.com/english/products/pdfs/e-ukw.pdf; ComponentLink2Description: Digi-Key Listing; ComponentLink2URL: https://www.digikey.com/product-detail/en/nichicon/UKW1H103MRD/493-10688-ND/1964272; Tolerance: 20%; Voltage: 50V; Price: 5.93; Device Package: Radial, Can, 25mm
footprint CAP AL TH D25 L12.5 H52
pins: 1, 2

## UKW1H222MHD
designator C?, comment 2200uF  (value not drawn)
CAP ALUM 2200UF 20% 50V RADIAL; Part Number: UKW1H222MHD; Manufacturer: Nichicon; TemperatureRange: -40C ~ 85C; Type: Polar; Ripple Current: 2.09A; Value: 2200uF; PartId: 27398; Supplier 1: Digi-Key; Supplier Part Number 1: 493-10718-ND; ComponentLink1Description: Datasheet; ComponentLink1URL: http://nichicon-us.com/english/products/pdfs/e-ukw.pdf; ComponentLink2Description: Digi-Key Listing; ComponentLink2URL: https://www.digikey.com/product-detail/en/nichicon/UKW1H222MHD/493-10718-ND/1964268; Tolerance: 20%; Voltage: 50V; Price: 2.08; Device Package: Radial, Can, 16mm
footprint CAP AL TH D16 L7.5 H37
pins: 1, 2

## UKW1H471MHD1TO
designator C?, comment 470uF  (value not drawn)
CAP ALUM 470UF 20% 50V RADIAL; Part Number: UKW1H471MHD1TO; Manufacturer: Nichicon; TemperatureRange: -40C ~ 85C; Type: Polar; Ripple Current: 760mA; Value: 470uF; PartId: 23424; Supplier 1: Digi-Key; Supplier Part Number 1: 493-10736-1-ND; ComponentLink1Description: Datasheet; ComponentLink1URL: http://nichicon-us.com/english/products/pdfs/e-ukw.pdf; ComponentLink2Description: Digi-Key Listing; ComponentLink2URL: https://www.digikey.com/product-detail/en/nichicon/UKW1H471MHD1TO/493-10736-1-ND/4317712; Tolerance: 20%; Voltage: 50V; Price: 1; Device Package: Radial, Can, 12.5mm
footprint CAP AL TH D12.5 L5 H22
pins: 1, 2

## UKW1H682MRD
designator C?, comment 6800uF  (value not drawn)
CAP ALUM 6800UF 20% 50V RADIAL; Part Number: UKW1H682MRD; Manufacturer: Nichicon; TemperatureRange: -40C ~ 85C; Type: Polar; Ripple Current: 3.5A; Value: 6800uF; PartId: 27627; Supplier 1: Digi-Key; Supplier Part Number 1: 493-10695-ND; ComponentLink1Description: Datasheet; ComponentLink1URL: http://nichicon-us.com/english/products/pdfs/e-ukw.pdf; ComponentLink2Description: Digi-Key Listing; ComponentLink2URL: https://www.digikey.com/product-detail/en/nichicon/UKW1H682MRD/493-10695-ND/1964271; Tolerance: 20%; Voltage: 50V; Price: 4.27; Device Package: Radial, Can, 22mm
footprint CAP AL TH D22 L10 H53
pins: 1, 2

## UKW1J101MPD1TD
designator C?, comment 100uF  (value not drawn)
CAP ALUM 100UF 20% 63V RADIAL; Part Number: UKW1J101MPD1TD; Manufacturer: Nichicon; TemperatureRange: -40C ~ 85C; Type: Polar; Ripple Current: 300mA; Value: 100uF; PartId: 24667; Supplier 1: Digi-Key; Supplier Part Number 1: 493-10750-3-ND; ComponentLink1Description: Datasheet; ComponentLink1URL: http://nichicon-us.com/english/products/pdfs/e-ukw.pdf; ComponentLink2Description: Digi-Key Listing; ComponentLink2URL: https://www.digikey.com/product-detail/en/nichicon/UKW1J101MPD1TD/493-10750-3-ND/4317328; Tolerance: 20%; Voltage: 63V; Price: 0.2779; Device Package: Radial, Can, 10mm
footprint CAP AL TH D10 L5 H14.5
pins: 1, 2

## UKW1J471MHD1TO
designator C?, comment 470uF  (value not drawn)
CAP ALUM 470UF 20% 63V RADIAL; Part Number: UKW1J471MHD1TO; Manufacturer: Nichicon; TemperatureRange: -40C ~ 85C; Type: Polar; Ripple Current: 880mA; Value: 470uF; PartId: 23425; Supplier 1: Digi-Key; Supplier Part Number 1: 493-10737-1-ND; ComponentLink1Description: Datasheet; ComponentLink1URL: http://nichicon-us.com/english/products/pdfs/e-ukw.pdf; ComponentLink2Description: Digi-Key Listing; ComponentLink2URL: https://www.digikey.com/product-detail/en/nichicon/UKW1J471MHD1TO/493-10737-1-ND/4317713; Tolerance: 20%; Voltage: 63V; Price: 1; Device Package: Radial, Can, 12.5mm
footprint CAP AL TH D12.5 L5 H22
pins: 1, 2

## UKW1J472MRD
designator C?, comment 4700uF  (value not drawn)
CAP ALUM 4700UF 20% 63V RADIAL; Part Number: UKW1J472MRD; Manufacturer: Nichicon; TemperatureRange: -40C ~ 85C; Type: Polar; Ripple Current: 3.4A; Value: 4700uF; PartId: 27677; Supplier 1: Digi-Key; Supplier Part Number 1: 493-10696-ND; ComponentLink1Description: Datasheet; ComponentLink1URL: http://nichicon-us.com/english/products/pdfs/e-ukw.pdf; ComponentLink2Description: Digi-Key Listing; ComponentLink2URL: https://www.digikey.com/product-detail/en/nichicon/UKW1J472MRD/493-10696-ND/1964284; Tolerance: 20%; Voltage: 63V; Price: 4.27; Device Package: Radial, Can, 22mm
footprint CAP AL TH D22 L10 H53
pins: 1, 2

## UKW1J682MRD
designator C?, comment 6800uF  (value not drawn)
CAP ALUM 6800UF 20% 63V RADIAL; Part Number: UKW1J682MRD; Manufacturer: Nichicon; TemperatureRange: -40C ~ 85C; Type: Polar; Ripple Current: 3.5A; Value: 6800uF; PartId: 27513; Supplier 1: Digi-Key; Supplier Part Number 1: 493-10689-ND; ComponentLink1Description: Datasheet; ComponentLink1URL: http://nichicon-us.com/english/products/pdfs/e-ukw.pdf; ComponentLink2Description: Digi-Key Listing; ComponentLink2URL: https://www.digikey.com/product-detail/en/nichicon/UKW1J682MRD/493-10689-ND/1964285; Tolerance: 20%; Voltage: 63V; Price: 5.93; Device Package: Radial, Can, 25mm
footprint CAP AL TH D25 L12.5 H52
pins: 1, 2

## UKW1V102MHD1TO
designator C?, comment 1000uF  (value not drawn)
CAP ALUM 1000UF 20% 35V RADIAL; Part Number: UKW1V102MHD1TO; Manufacturer: Nichicon; TemperatureRange: -40C ~ 85C; Type: Polar; Ripple Current: 1.1A; Value: 1000uF; PartId: 23183; Supplier 1: Digi-Key; Supplier Part Number 1: 493-10738-3-ND; ComponentLink1Description: Datasheet; ComponentLink1URL: http://nichicon-us.com/english/products/pdfs/e-ukw.pdf; ComponentLink2Description: Digi-Key Listing; ComponentLink2URL: https://www.digikey.com/product-detail/en/nichicon/UKW1V102MHD1TO/493-10738-3-ND/4317316; Tolerance: 20%; Voltage: 35V; Price: 0.421; Device Package: Radial, Can, 12.5mm
footprint CAP AL TH D12.5 L5 H22
pins: 1, 2

## UKW1V103MRD
designator C?, comment 10000uF  (value not drawn)
CAP ALUM 10000UF 20% 35V RADIAL; Part Number: UKW1V103MRD; Manufacturer: Nichicon; TemperatureRange: -40C ~ 85C; Type: Polar; Ripple Current: 3.7A; Value: 10000uF; PartId: 27667; Supplier 1: Digi-Key; Supplier Part Number 1: 493-10697-ND; ComponentLink1Description: Datasheet; ComponentLink1URL: http://nichicon-us.com/english/products/pdfs/e-ukw.pdf; ComponentLink2Description: Digi-Key Listing; ComponentLink2URL: https://www.digikey.com/product-detail/en/nichicon/UKW1V103MRD/493-10697-ND/1964251; Tolerance: 20%; Voltage: 35V; Price: 4.27; Device Package: Radial, Can, 22mm
footprint CAP AL TH D22 L10 H53
pins: 1, 2

## UKW1V153MRD
designator C?, comment 15000uF  (value not drawn)
CAP ALUM 15000UF 20% 35V RADIAL; Part Number: UKW1V153MRD; Manufacturer: Nichicon; TemperatureRange: -40C ~ 85C; Type: Polar; Ripple Current: 4.3A; Value: 15000uF; PartId: 27546; Supplier 1: Digi-Key; Supplier Part Number 1: 493-10690-ND; ComponentLink1Description: Datasheet; ComponentLink1URL: http://nichicon-us.com/english/products/pdfs/e-ukw.pdf; ComponentLink2Description: Digi-Key Listing; ComponentLink2URL: https://www.digikey.com/product-detail/en/nichicon/UKW1V153MRD/493-10690-ND/1964252; Tolerance: 20%; Voltage: 35V; Price: 5.93; Device Package: Radial, Can, 25mm
footprint CAP AL TH D25 L12.5 H52
pins: 1, 2

## UKW1V221MPD1TD
designator C?, comment 220uF  (value not drawn)
CAP ALUM 220UF 20% 35V RADIAL; Part Number: UKW1V221MPD1TD; Manufacturer: Nichicon; TemperatureRange: -40C ~ 85C; Type: Polar; Ripple Current: 370mA; Value: 220uF; PartId: 24655; Supplier 1: Digi-Key; Supplier Part Number 1: 493-10755-3-ND; ComponentLink1Description: Datasheet; ComponentLink1URL: http://nichicon-us.com/english/products/pdfs/e-ukw.pdf; ComponentLink2Description: Digi-Key Listing; ComponentLink2URL: https://www.digikey.com/product-detail/en/nichicon/UKW1V221MPD1TD/493-10755-3-ND/4317333; Tolerance: 20%; Voltage: 35V; Price: 0.257; Device Package: Radial, Can, 10mm
footprint CAP AL TH D10 L5 H14.5
pins: 1, 2

## UKW1V332MHD
designator C?, comment 3300uF  (value not drawn)
CAP ALUM 3300UF 20% 35V RADIAL; Part Number: UKW1V332MHD; Manufacturer: Nichicon; TemperatureRange: -40C ~ 85C; Type: Polar; Ripple Current: 2.22A; Value: 3300uF; PartId: 27400; Supplier 1: Digi-Key; Supplier Part Number 1: 493-10714-ND; ComponentLink1Description: Datasheet; ComponentLink1URL: http://nichicon-us.com/english/products/pdfs/e-ukw.pdf; ComponentLink2Description: Digi-Key Listing; ComponentLink2URL: https://www.digikey.com/product-detail/en/nichicon/UKW1V332MHD/493-10714-ND/1964248; Tolerance: 20%; Voltage: 35V; Price: 2.09; Device Package: Radial, Can, 16mm
footprint CAP AL TH D16 L7.5 H37
pins: 1, 2

## UKW2A101MPD1TD
designator C?, comment 100uF  (value not drawn)
CAP ALUM 100UF 20% 100V RADIAL; Part Number: UKW2A101MPD1TD; Manufacturer: Nichicon; TemperatureRange: -40C ~ 85C; Type: Polar; Ripple Current: 350mA; Value: 100uF; PartId: 25811; Supplier 1: Digi-Key; Supplier Part Number 1: 493-10743-3-ND; ComponentLink1Description: Datasheet; ComponentLink1URL: http://nichicon-us.com/english/products/pdfs/e-ukw.pdf; ComponentLink2Description: Digi-Key Listing; ComponentLink2URL: https://www.digikey.com/product-detail/en/nichicon/UKW2A101MPD1TD/493-10743-3-ND/4317321; Tolerance: 20%; Voltage: 100V; Price: 0.3292; Device Package: Radial, Can, 10mm
footprint CAP AL TH D10 L5 H22
pins: 1, 2

## UKW2A221MHD1TO
designator C?, comment 220uF  (value not drawn)
CAP ALUM 220UF 20% 100V RADIAL; Part Number: UKW2A221MHD1TO; Manufacturer: Nichicon; TemperatureRange: -40C ~ 85C; Type: Polar; Ripple Current: 600mA; Value: 220uF; PartId: 23854; Supplier 1: Digi-Key; Supplier Part Number 1: 493-10731-3-ND; ComponentLink1Description: Datasheet; ComponentLink1URL: http://nichicon-us.com/english/products/pdfs/e-ukw.pdf; ComponentLink2Description: Digi-Key Listing; ComponentLink2URL: https://www.digikey.com/product-detail/en/nichicon/UKW2A221MHD1TO/493-10731-3-ND/4317309; Tolerance: 20%; Voltage: 100V; Price: 0.6485; Device Package: Radial, Can, 12.5mm
footprint CAP AL TH D12.5 L5 H27
pins: 1, 2

## UKW2A222MRD
designator C?, comment 2200uF  (value not drawn)
CAP ALUM 2200UF 20% 100V RADIAL; Part Number: UKW2A222MRD; Manufacturer: Nichicon; TemperatureRange: -40C ~ 85C; Type: Polar; Ripple Current: 2.4A; Value: 2200uF; PartId: 27666; Supplier 1: Digi-Key; Supplier Part Number 1: 493-10698-ND; ComponentLink1Description: Datasheet; ComponentLink1URL: http://nichicon-us.com/english/products/pdfs/e-ukw.pdf; ComponentLink2Description: Digi-Key Listing; ComponentLink2URL: https://www.digikey.com/product-detail/en/nichicon/UKW2A222MRD/493-10698-ND/1964303; Tolerance: 20%; Voltage: 100V; Price: 4.27; Device Package: Radial, Can, 22mm
footprint CAP AL TH D22 L10 H53
pins: 1, 2

## UKW2A331MHD1TO
designator C?, comment 330uF  (value not drawn)
CAP ALUM 330UF 20% 100V RADIAL; Part Number: UKW2A331MHD1TO; Manufacturer: Nichicon; TemperatureRange: -40C ~ 85C; Type: Polar; Ripple Current: 750mA; Value: 330uF; PartId: 23857; Supplier 1: Digi-Key; Supplier Part Number 1: 493-10732-3-ND; ComponentLink1Description: Datasheet; ComponentLink1URL: http://nichicon-us.com/english/products/pdfs/e-ukw.pdf; ComponentLink2Description: Digi-Key Listing; ComponentLink2URL: https://www.digikey.com/product-detail/en/nichicon/UKW2A331MHD1TO/493-10732-3-ND/4317310; Tolerance: 20%; Voltage: 100V; Price: 0.6485; Device Package: Radial, Can, 12.5mm
footprint CAP AL TH D12.5 L5 H27
pins: 1, 2

## UKW2A332MRD
designator C?, comment 3300uF  (value not drawn)
CAP ALUM 3300UF 20% 100V RADIAL; Part Number: UKW2A332MRD; Manufacturer: Nichicon; TemperatureRange: -40C ~ 85C; Type: Polar; Ripple Current: 2.9A; Value: 3300uF; PartId: 27547; Supplier 1: Digi-Key; Supplier Part Number 1: 493-10685-ND; ComponentLink1Description: Datasheet; ComponentLink1URL: http://nichicon-us.com/english/products/pdfs/e-ukw.pdf; ComponentLink2Description: Digi-Key Listing; ComponentLink2URL: https://www.digikey.com/product-detail/en/nichicon/UKW2A332MRD/493-10685-ND/1964304; Tolerance: 20%; Voltage: 100V; Price: 5.97; Device Package: Radial, Can, 25mm
footprint CAP AL TH D25 L12.5 H52
pins: 1, 2

## UKZ1E101MPM
designator C?, comment 100uF  (value not drawn)
CAP ALUM 100UF 20% 25V RADIAL; Part Number: UKZ1E101MPM; Manufacturer: Nichicon; TemperatureRange: -40C ~ 85C; Type: Polar; Value: 100uF; PartId: 25244; Supplier 1: Digi-Key; Supplier Part Number 1: 493-3190-ND; ComponentLink1Description: Datasheet; ComponentLink1URL: http://nichicon-us.com/english/products/pdfs/e-ukz.pdf; ComponentLink2Description: Digi-Key Listing; ComponentLink2URL: https://www.digikey.com/product-detail/en/nichicon/UKZ1E101MPM/493-3190-ND/1965212; Tolerance: 20%; Voltage: 25V; Price: 0.57; Device Package: Radial, Can, 10mm
footprint CAP AL TH D10 L5 H17.5
pins: 1, 2

## UKZ1E102MHM
designator C?, comment 1000uF  (value not drawn)
CAP ALUM 1000UF 20% 25V RADIAL; Part Number: UKZ1E102MHM; Manufacturer: Nichicon; TemperatureRange: -40C ~ 85C; Type: Polar; Value: 1000uF; PartId: 27313; Supplier 1: Digi-Key; Supplier Part Number 1: 493-14501-ND; ComponentLink1Description: Datasheet; ComponentLink1URL: http://nichicon-us.com/english/products/pdfs/e-ukz.pdf; ComponentLink2Description: Digi-Key Listing; ComponentLink2URL: https://www.digikey.com/product-detail/en/nichicon/UKZ1E102MHM/493-14501-ND/1964383; Tolerance: 20%; Voltage: 25V; Price: 1.37; Device Package: Radial, Can, 16mm
footprint CAP AL TH D16 L7.5 H37
pins: 1, 2

## UKZ1E221MHM
designator C?, comment 220uF  (value not drawn)
CAP ALUM 220UF 20% 25V RADIAL; Part Number: UKZ1E221MHM; Manufacturer: Nichicon; TemperatureRange: -40C ~ 85C; Type: Polar; Value: 220uF; PartId: 22861; Supplier 1: Digi-Key; Supplier Part Number 1: 493-14502-ND; ComponentLink1Description: Datasheet; ComponentLink1URL: http://nichicon-us.com/english/products/pdfs/e-ukz.pdf; ComponentLink2Description: Digi-Key Listing; ComponentLink2URL: https://www.digikey.com/product-detail/en/nichicon/UKZ1E221MHM/493-14502-ND/1964382; Tolerance: 20%; Voltage: 25V; Price: 0; Device Package: Radial, Can, 12.5mm
footprint CAP AL TH D12.5 L5 H20
pins: 1, 2

## UKZ1E331MHM
designator C?, comment 330uF  (value not drawn)
CAP ALUM 330UF 20% 25V RADIAL; Part Number: UKZ1E331MHM; Manufacturer: Nichicon; TemperatureRange: -40C ~ 85C; Type: Polar; Value: 330uF; PartId: 23548; Supplier 1: Digi-Key; Supplier Part Number 1: 493-3191-ND; ComponentLink1Description: Datasheet; ComponentLink1URL: http://nichicon-us.com/english/products/pdfs/e-ukz.pdf; ComponentLink2Description: Digi-Key Listing; ComponentLink2URL: https://www.digikey.com/product-detail/en/nichicon/UKZ1E331MHM/493-3191-ND/1965213; Tolerance: 20%; Voltage: 25V; Price: 0.83; Device Package: Radial, Can, 12.5mm
footprint CAP AL TH D12.5 L5 H25
pins: 1, 2

## UKZ1E471MHM
designator C?, comment 470uF  (value not drawn)
CAP ALUM 470UF 20% 25V RADIAL; Part Number: UKZ1E471MHM; Manufacturer: Nichicon; TemperatureRange: -40C ~ 85C; Type: Polar; Value: 470uF; PartId: 26536; Supplier 1: Digi-Key; Supplier Part Number 1: 493-3192-ND; ComponentLink1Description: Datasheet; ComponentLink1URL: http://nichicon-us.com/english/products/pdfs/e-ukz.pdf; ComponentLink2Description: Digi-Key Listing; ComponentLink2URL: https://www.digikey.com/product-detail/en/nichicon/UKZ1E471MHM/493-3192-ND/1965214; Tolerance: 20%; Voltage: 25V; Price: 0.96; Device Package: Radial, Can, 16mm
footprint CAP AL TH D16 L7.5 H26.5
pins: 1, 2

## UKZ1H101MHM
designator C?, comment 100uF  (value not drawn)
CAP ALUM 100UF 20% 50V RADIAL; Part Number: UKZ1H101MHM; Manufacturer: Nichicon; TemperatureRange: -40C ~ 85C; Type: Polar; Value: 100uF; PartId: 22855; Supplier 1: Digi-Key; Supplier Part Number 1: 493-3195-ND; ComponentLink1Description: Datasheet; ComponentLink1URL: http://nichicon-us.com/english/products/pdfs/e-ukz.pdf; ComponentLink2Description: Digi-Key Listing; ComponentLink2URL: https://www.digikey.com/product-detail/en/nichicon/UKZ1H101MHM/493-3195-ND/1965217; Tolerance: 20%; Voltage: 50V; Price: 0; Device Package: Radial, Can, 12.5mm
footprint CAP AL TH D12.5 L5 H20
pins: 1, 2

## UKZ1H221MHM
designator C?, comment 220uF  (value not drawn)
CAP ALUM 220UF 20% 50V RADIAL; Part Number: UKZ1H221MHM; Manufacturer: Nichicon; TemperatureRange: -40C ~ 85C; Type: Polar; Value: 220uF; PartId: 26531; Supplier 1: Digi-Key; Supplier Part Number 1: 493-3196-ND; ComponentLink1Description: Datasheet; ComponentLink1URL: http://nichicon-us.com/english/products/pdfs/e-ukz.pdf; ComponentLink2Description: Digi-Key Listing; ComponentLink2URL: https://www.digikey.com/product-detail/en/nichicon/UKZ1H221MHM/493-3196-ND/1965218; Tolerance: 20%; Voltage: 50V; Price: 0.94; Device Package: Radial, Can, 16mm
footprint CAP AL TH D16 L7.5 H26.5
pins: 1, 2

## UKZ1H470MPM
designator C?, comment 47uF  (value not drawn)
CAP ALUM 47UF 20% 50V RADIAL; Part Number: UKZ1H470MPM; Manufacturer: Nichicon; TemperatureRange: -40C ~ 85C; Type: Polar; Value: 47uF; PartId: 25230; Supplier 1: Digi-Key; Supplier Part Number 1: 493-3194-ND; ComponentLink1Description: Datasheet; ComponentLink1URL: http://nichicon-us.com/english/products/pdfs/e-ukz.pdf; ComponentLink2Description: Digi-Key Listing; ComponentLink2URL: https://www.digikey.com/product-detail/en/nichicon/UKZ1H470MPM/493-3194-ND/1965216; Tolerance: 20%; Voltage: 50V; Price: 0.55; Device Package: Radial, Can, 10mm
footprint CAP AL TH D10 L5 H17.5
pins: 1, 2

## UKZ1H471MHM
designator C?, comment 470uF  (value not drawn)
CAP ALUM 470UF 20% 50V RADIAL; Part Number: UKZ1H471MHM; Manufacturer: Nichicon; TemperatureRange: -40C ~ 85C; Type: Polar; Value: 470uF; PartId: 27317; Supplier 1: Digi-Key; Supplier Part Number 1: 493-3197-ND; ComponentLink1Description: Datasheet; ComponentLink1URL: http://nichicon-us.com/english/products/pdfs/e-ukz.pdf; ComponentLink2Description: Digi-Key Listing; ComponentLink2URL: https://www.digikey.com/product-detail/en/nichicon/UKZ1H471MHM/493-3197-ND/1965219; Tolerance: 20%; Voltage: 50V; Price: 1.48; Device Package: Radial, Can, 16mm
footprint CAP AL TH D16 L7.5 H37
pins: 1, 2

## UKZ2A101MHM
designator C?, comment 100uF  (value not drawn)
CAP ALUM 100UF 20% 100V RADIAL; Part Number: UKZ2A101MHM; Manufacturer: Nichicon; TemperatureRange: -40C ~ 85C; Type: Polar; Value: 100uF; PartId: 26545; Supplier 1: Digi-Key; Supplier Part Number 1: 493-3200-ND; ComponentLink1Description: Datasheet; ComponentLink1URL: http://nichicon-us.com/english/products/pdfs/e-ukz.pdf; ComponentLink2Description: Digi-Key Listing; ComponentLink2URL: https://www.digikey.com/product-detail/en/nichicon/UKZ2A101MHM/493-3200-ND/1965222; Tolerance: 20%; Voltage: 100V; Price: 1.03; Device Package: Radial, Can, 16mm
footprint CAP AL TH D16 L7.5 H26.5
pins: 1, 2

## UKZ2A221MHM
designator C?, comment 220uF  (value not drawn)
CAP ALUM 220UF 20% 100V RADIAL; Part Number: UKZ2A221MHM; Manufacturer: Nichicon; TemperatureRange: -40C ~ 85C; Type: Polar; Value: 220uF; PartId: 27340; Supplier 1: Digi-Key; Supplier Part Number 1: 493-3201-ND; ComponentLink1Description: Datasheet; ComponentLink1URL: http://nichicon-us.com/english/products/pdfs/e-ukz.pdf; ComponentLink2Description: Digi-Key Listing; ComponentLink2URL: https://www.digikey.com/product-detail/en/nichicon/UKZ2A221MHM/493-3201-ND/1965223; Tolerance: 20%; Voltage: 100V; Price: 1.67; Device Package: Radial, Can, 16mm
footprint CAP AL TH D16 L7.5 H37
pins: 1, 2

## UKZ2A470MHM
designator C?, comment 47uF  (value not drawn)
CAP ALUM 47UF 20% 100V RADIAL; Part Number: UKZ2A470MHM; Manufacturer: Nichicon; TemperatureRange: -40C ~ 85C; Type: Polar; Value: 47uF; PartId: 22867; Supplier 1: Digi-Key; Supplier Part Number 1: 493-3199-ND; ComponentLink1Description: Datasheet; ComponentLink1URL: http://nichicon-us.com/english/products/pdfs/e-ukz.pdf; ComponentLink2Description: Digi-Key Listing; ComponentLink2URL: https://www.digikey.com/product-detail/en/nichicon/UKZ2A470MHM/493-3199-ND/1965221; Tolerance: 20%; Voltage: 100V; Price: 0; Device Package: Radial, Can, 12.5mm
footprint CAP AL TH D12.5 L5 H20
pins: 1, 2

## ULD2C150MPD6TD
designator C?, comment 15uF  (value not drawn)
CAP ALUM 15UF 20% 160V RADIAL; Part Number: ULD2C150MPD6TD; Manufacturer: Nichicon; TemperatureRange: -40C ~ 105C; Type: Polar; Ripple Current: 95mA @ 120Hz; Value: 15uF; PartId: 24477; Supplier 1: Digi-Key; Supplier Part Number 1: 493-13896-1-ND; ComponentLink1Description: Datasheet; ComponentLink1URL: http://nichicon-us.com/english/products/pdfs/e-uld.pdf; ComponentLink2Description: Digi-Key Listing; ComponentLink2URL: https://www.digikey.com/product-detail/en/nichicon/ULD2C150MPD6TD/493-13896-1-ND/4695169; Tolerance: 20%; Voltage: 160V; Price: 0.65; Device Package: Radial, Can, 10mm
footprint CAP AL TH D10 L5 H12.5
pins: 1, 2

## ULD2D120MPD1TD
designator C?, comment 12uF  (value not drawn)
CAP ALUM 12UF 20% 200V RADIAL; Part Number: ULD2D120MPD1TD; Manufacturer: Nichicon; TemperatureRange: -40C ~ 105C; Type: Polar; Ripple Current: 88mA @ 120Hz; Value: 12uF; PartId: 24447; Supplier 1: Digi-Key; Supplier Part Number 1: 493-13862-3-ND; ComponentLink1Description: Datasheet; ComponentLink1URL: http://nichicon-us.com/english/products/pdfs/e-uld.pdf; ComponentLink2Description: Digi-Key Listing; ComponentLink2URL: https://www.digikey.com/product-detail/en/nichicon/ULD2D120MPD1TD/493-13862-3-ND/4695186; Tolerance: 20%; Voltage: 200V; Price: 0.2584; Device Package: Radial, Can, 10mm
footprint CAP AL TH D10 L5 H12.5
pins: 1, 2